# EAGLE library part OSSC_DIY_AUDIO_OVERLAY_WEXTMCLK (library OSSC_HDMI_Audio)
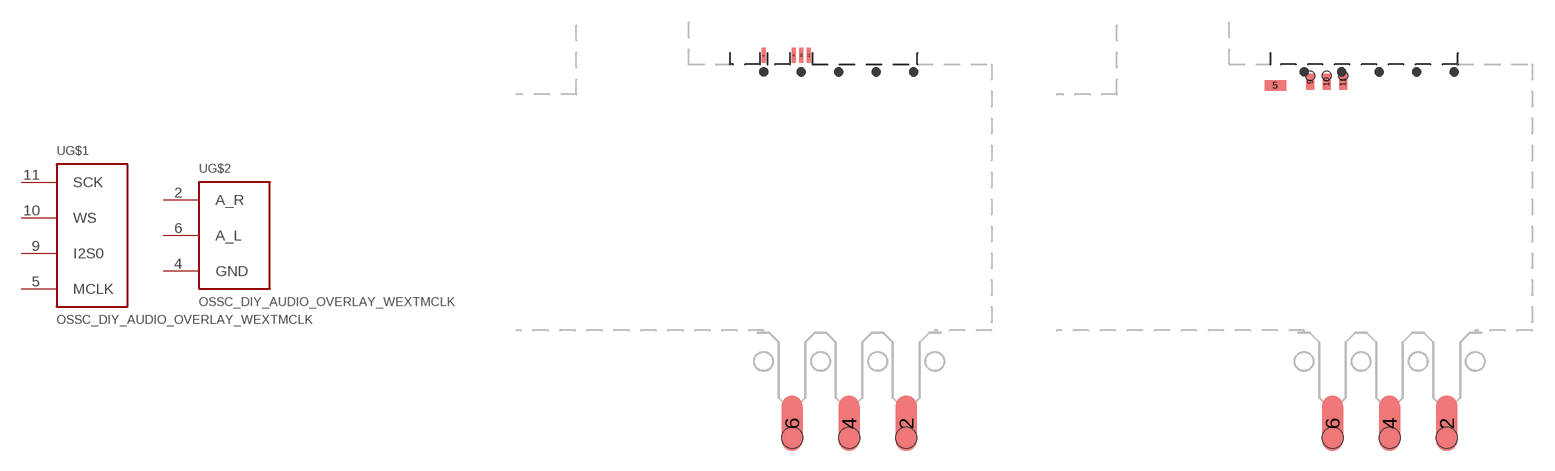
[diagram p4: symbol with the pads of OSSC_OVERLAY_V1.3_WEXTMCLK; footprints OSSC_OVERLAY_V1.3_WEXTMCLK, OSSC_OVERLAY_V1.5_WEXT_MCLK]

Designator prefix -; gates G$2=SCART_AUDIO_GND G$1=IT6613E_I2S0_WEXTMCLK

## OSSC_DIY_AUDIO_OVERLAY_WEXTMCLKDIY-V1.3  [OSSC_OVERLAY_V1.3_WEXTMCLK]
2  G$2:A_R
4  G$2:GND
5  G$1:MCLK
6  G$2:A_L
9  G$1:I2S0
10  G$1:WS
11  G$1:SCK

## OSSC_DIY_AUDIO_OVERLAY_WEXTMCLKDIY-V1.5  [OSSC_OVERLAY_V1.5_WEXT_MCLK]
Pads as for OSSC_OVERLAY_V1.3_WEXTMCLK

## OSSC_DIY_AUDIO_OVERLAY_WEXTMCLKDIY-V1.5B  [OSSC_OVERLAY_V1.5B_WEXTMCLK]
Pads as for OSSC_OVERLAY_V1.3_WEXTMCLK

## Footprint OSSC_OVERLAY_V1.3_WEXTMCLK (pad centres in mm)
smd 1.397 x 3.683: 2 3.81,0.953; 4 0,0.953; 6 -3.81,0.953
smd 0.246 x 1: 5 -5.7,25.5; 9 -3.7,25.5; 10 -3.2,25.5; 11 -2.7,25.5
hole 1.4 at -3.81,0
hole 1.4 at 0,0
hole 1.4 at 3.81,0

## Footprint OSSC_OVERLAY_V1.5_WEXT_MCLK (pad centres in mm)
smd 1.397 x 3.683: 2 3.81,0.953; 4 0,0.953; 6 -3.81,0.953
smd 1.422 x 0.711: 5 -7.62,23.495
smd 0.55 x 1.05: 9 -5.3,23.75; 10 -4.2,23.75; 11 -3.1,23.75
hole 1.4 at -3.81,0
hole 1.4 at 0,0
hole 1.4 at 3.81,0
hole 0.6 at -3.1,24.13
hole 0.6 at -4.2,24.13
hole 0.6 at -5.3,24.13

## Footprint OSSC_OVERLAY_V1.5B_WEXTMCLK (pad centres in mm)
smd 1.067 x 2.184: 2 3.81,8.89; 4 0,8.89; 6 -3.81,8.89
smd 1.422 x 0.711: 5 -7.62,23.495
smd 0.55 x 1.05: 9 -5.3,23.75; 10 -4.2,23.75; 11 -3.1,23.75
hole 0.6 at -3.1,24.13
hole 0.6 at -4.2,24.13
hole 0.6 at -5.3,24.13